# EAGLE library part UE27AC54100 (library KVB-connectors)
USB - A USB 2.0 Receptacle Connector 4 Position Through Hole Right Angle
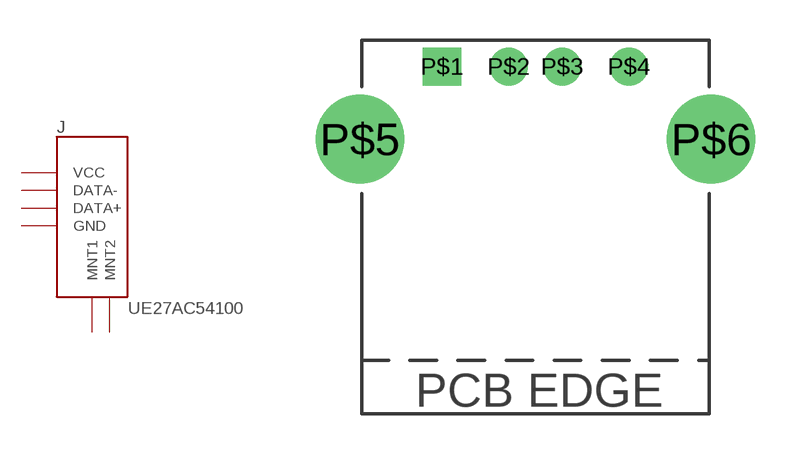
[diagram p8: symbol with the pads of UE27AC54100; footprint UE27AC54100]

Designator prefix J

## UE27AC54100 (MAN-PART_NUM: UE27AC54100; MANUFACTURER: Amphenol)  [UE27AC54100]
P$1  VCC
P$2  DATA-
P$3  DATA+
P$4  GND
P$5  MNT1
P$6  MNT2

## Footprint UE27AC54100 (pad centres in mm)
drill 0.92 square: P$1 -3.5,0
drill 0.92: P$2 -1,0; P$3 1,0; P$4 3.5,0
drill 2.3: P$5 -6.57,-2.71; P$6 6.57,-2.71